# Altium footprint library DCconnectorFemale.PcbLib: 1 footprints
Each footprint in its own frame and in the unit in brackets; x right, y up, seen from the top. Pads: shape width x height; smd on the part's side, far side on the other; paste and mask are expansions set on the pad; w line width, h text height; cw(c..) or ccw(c..) is an arc to the next point about the centre after c.
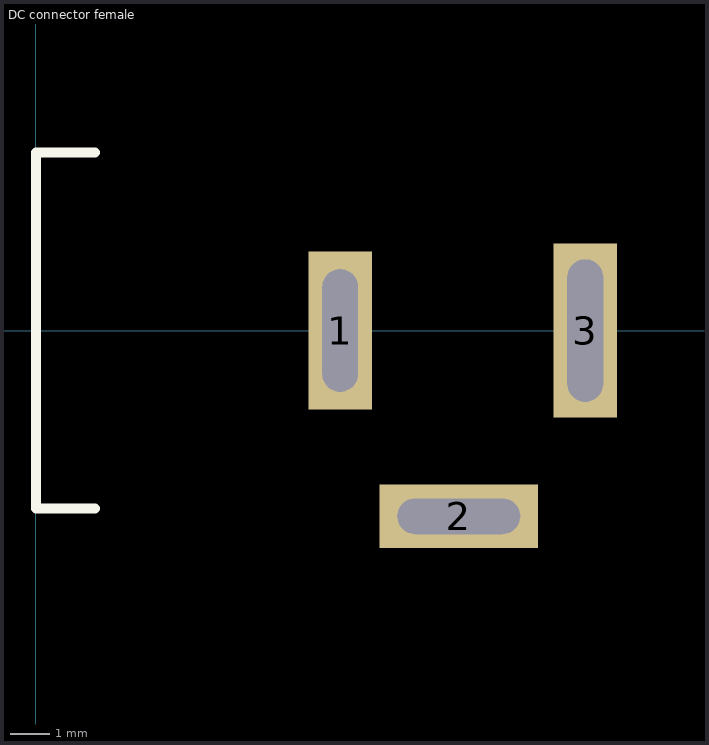
[diagram p0: the footprint, top view; thin cyan lines are the x and y axes]

## DC connector female [mm]
pads (3):
  rect 1.6x4 hole 3.1 slot 0.9 at 0 deg: 1(7.7,0)
  rect 4x1.6 hole 3.1 slot 0.9 at 90 deg: 2(10.7,-4.7)
  rect 1.6x4.4 hole 3.6 slot 0.9 at 0 deg: 3(13.9,0)
Top Overlay:
  lines w0.254: 1.5,-4.5 0,-4.5 0,4.5 1.5,4.5
3D body "conector DC.STEP": height 11, standoff -3.5, extent -0.176,-4.777 14.224,4.523